# Altium integrated library AnalogDevices-ADM3054.IntLib: 2 symbols
Pins are listed as number, name and electrical type; pins without a type are passive.

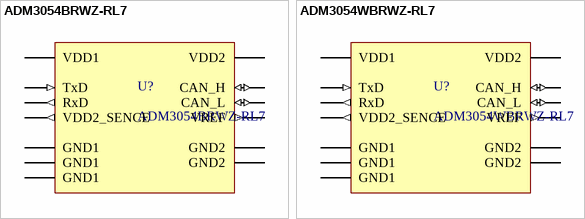
[diagram p0: symbols ADM3054BRWZ-RL7 to ADM3054WBRWZ-RL7]

## ADM3054BRWZ-RL7
designator U?
Analog Devices / CAN Isolator / -40°C～125°C; Supplier 1: Digi-Key; Supplier Part Number 1: ADM3054BRWZ-RL7CT-ND
footprint SOIC127P1030X265-16N (SOIC, 16-Leads, Body 10.30x7.50mm, Pitch 1.27mm, IPC Medium Density); pin to pad 2>2+3+8
pins: 2 GND1 (power), 3 GND1 (power), 4 VDD2_SENCE (out), 5 RxD (out), 6 TxD (in), 7 VDD1 (power), 8 GND1 (power), 9 GND2 (power), 10 VREF (out), 11 CAN_L (io), 12 CAN_H (io), 13 VDD2 (power), 16 GND2 (power)

## ADM3054WBRWZ-RL7
designator U?
Analog Devices / CAN Isolator / -40°C～125°C / Automotive Grade; Supplier 1: Digi-Key; Supplier Part Number 1: ADM3054WBRWZ-RL7CT-ND
footprint SOIC127P1030X265-16N (SOIC, 16-Leads, Body 10.30x7.50mm, Pitch 1.27mm, IPC Medium Density)
pins: 2 GND1 (power), 3 GND1 (power), 4 VDD2_SENCE (out), 5 RxD (out), 6 TxD (in), 7 VDD1 (power), 8 GND1 (power), 9 GND2 (power), 10 VREF (out), 11 CAN_L (io), 12 CAN_H (io), 13 VDD2 (power), 16 GND2 (power)